# EAGLE library part PARALLELLA_R0 (library parallella)
Parallella full device [rev 0]
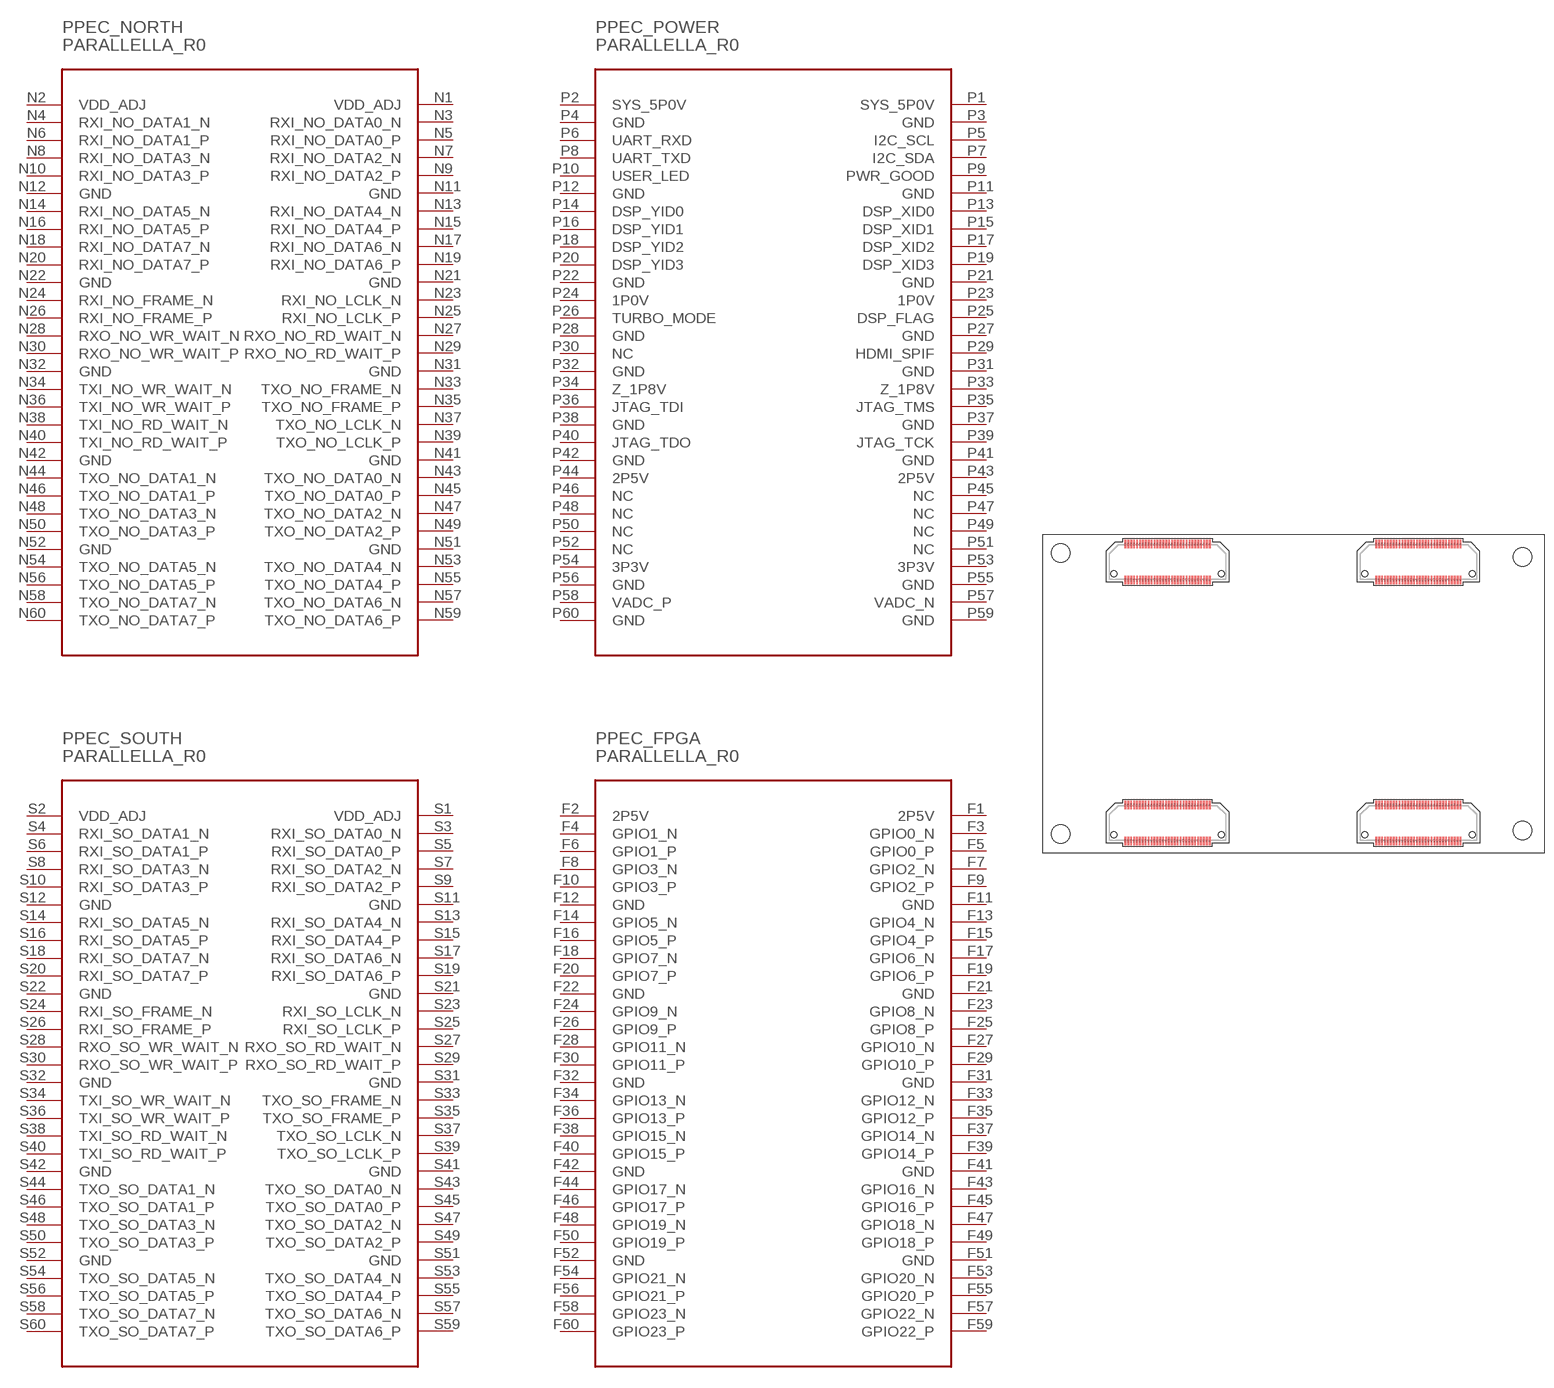
[diagram p1: symbol with the pads of PARALLELLA_R0; footprint PARALLELLA_R0]

Designator prefix P; gates PEC_NORTH=PEC_NORTH_R0 PEC_SOUTH=PEC_SOUTH_R0 PEC_POWER=PEC_POWER_R0 PEC_FPGA=PEC_FPGA_R0

## PARALLELLA_R0  [PARALLELLA_R0]
F1  PEC_FPGA:2P5V  pas
F2  PEC_FPGA:2P5V  pas
F3  PEC_FPGA:GPIO0_N
F4  PEC_FPGA:GPIO1_N
F5  PEC_FPGA:GPIO0_P
F6  PEC_FPGA:GPIO1_P
F7  PEC_FPGA:GPIO2_N
F8  PEC_FPGA:GPIO3_N
F9  PEC_FPGA:GPIO2_P
F10  PEC_FPGA:GPIO3_P
F11  PEC_FPGA:GND  pas
F12  PEC_FPGA:GND  pas
F13  PEC_FPGA:GPIO4_N
F14  PEC_FPGA:GPIO5_N
F15  PEC_FPGA:GPIO4_P
F16  PEC_FPGA:GPIO5_P
F17  PEC_FPGA:GPIO6_N
F18  PEC_FPGA:GPIO7_N
F19  PEC_FPGA:GPIO6_P
F20  PEC_FPGA:GPIO7_P
F21  PEC_FPGA:GND  pas
F22  PEC_FPGA:GND  pas
F23  PEC_FPGA:GPIO8_N
F24  PEC_FPGA:GPIO9_N
F25  PEC_FPGA:GPIO8_P
F26  PEC_FPGA:GPIO9_P
F27  PEC_FPGA:GPIO10_N
F28  PEC_FPGA:GPIO11_N
F29  PEC_FPGA:GPIO10_P
F30  PEC_FPGA:GPIO11_P
F31  PEC_FPGA:GND  pas
F32  PEC_FPGA:GND  pas
F33  PEC_FPGA:GPIO12_N
F34  PEC_FPGA:GPIO13_N
F35  PEC_FPGA:GPIO12_P
F36  PEC_FPGA:GPIO13_P
F37  PEC_FPGA:GPIO14_N
F38  PEC_FPGA:GPIO15_N
F39  PEC_FPGA:GPIO14_P
F40  PEC_FPGA:GPIO15_P
F41  PEC_FPGA:GND  pas
F42  PEC_FPGA:GND  pas
F43  PEC_FPGA:GPIO16_N
F44  PEC_FPGA:GPIO17_N
F45  PEC_FPGA:GPIO16_P
F46  PEC_FPGA:GPIO17_P
F47  PEC_FPGA:GPIO18_N
F48  PEC_FPGA:GPIO19_N
F49  PEC_FPGA:GPIO18_P
F50  PEC_FPGA:GPIO19_P
F51  PEC_FPGA:GND  pas
F52  PEC_FPGA:GND  pas
F53  PEC_FPGA:GPIO20_N
F54  PEC_FPGA:GPIO21_N
F55  PEC_FPGA:GPIO20_P
F56  PEC_FPGA:GPIO21_P
F57  PEC_FPGA:GPIO22_N
F58  PEC_FPGA:GPIO23_N
F59  PEC_FPGA:GPIO22_P
F60  PEC_FPGA:GPIO23_P
N1  PEC_NORTH:VDD_ADJ  pas
N2  PEC_NORTH:VDD_ADJ  pas
N3  PEC_NORTH:RXI_NO_DATA0_N  in
N4  PEC_NORTH:RXI_NO_DATA1_N  in
N5  PEC_NORTH:RXI_NO_DATA0_P  in
N6  PEC_NORTH:RXI_NO_DATA1_P  in
N7  PEC_NORTH:RXI_NO_DATA2_N  in
N8  PEC_NORTH:RXI_NO_DATA3_N  in
N9  PEC_NORTH:RXI_NO_DATA2_P  in
N10  PEC_NORTH:RXI_NO_DATA3_P  in
N11  PEC_NORTH:GND  pas
N12  PEC_NORTH:GND  pas
N13  PEC_NORTH:RXI_NO_DATA4_N  in
N14  PEC_NORTH:RXI_NO_DATA5_N  in
N15  PEC_NORTH:RXI_NO_DATA4_P  in
N16  PEC_NORTH:RXI_NO_DATA5_P  in
N17  PEC_NORTH:RXI_NO_DATA6_N  in
N18  PEC_NORTH:RXI_NO_DATA7_N  in
N19  PEC_NORTH:RXI_NO_DATA6_P  in
N20  PEC_NORTH:RXI_NO_DATA7_P  in
N21  PEC_NORTH:GND  pas
N22  PEC_NORTH:GND  pas
N23  PEC_NORTH:RXI_NO_LCLK_N  in
N24  PEC_NORTH:RXI_NO_FRAME_N  in
N25  PEC_NORTH:RXI_NO_LCLK_P  in
N26  PEC_NORTH:RXI_NO_FRAME_P  in
N27  PEC_NORTH:RXO_NO_RD_WAIT_N  out
N28  PEC_NORTH:RXO_NO_WR_WAIT_N  out
N29  PEC_NORTH:RXO_NO_RD_WAIT_P  out
N30  PEC_NORTH:RXO_NO_WR_WAIT_P  out
N31  PEC_NORTH:GND  pas
N32  PEC_NORTH:GND  pas
N33  PEC_NORTH:TXO_NO_FRAME_N  out
N34  PEC_NORTH:TXI_NO_WR_WAIT_N  in
N35  PEC_NORTH:TXO_NO_FRAME_P  out
N36  PEC_NORTH:TXI_NO_WR_WAIT_P  in
N37  PEC_NORTH:TXO_NO_LCLK_N  out
N38  PEC_NORTH:TXI_NO_RD_WAIT_N  in
N39  PEC_NORTH:TXO_NO_LCLK_P  out
N40  PEC_NORTH:TXI_NO_RD_WAIT_P  in
N41  PEC_NORTH:GND  pas
N42  PEC_NORTH:GND  pas
N43  PEC_NORTH:TXO_NO_DATA0_N  out
N44  PEC_NORTH:TXO_NO_DATA1_N  out
N45  PEC_NORTH:TXO_NO_DATA0_P  out
N46  PEC_NORTH:TXO_NO_DATA1_P  out
N47  PEC_NORTH:TXO_NO_DATA2_N  out
N48  PEC_NORTH:TXO_NO_DATA3_N  out
N49  PEC_NORTH:TXO_NO_DATA2_P  out
N50  PEC_NORTH:TXO_NO_DATA3_P  out
N51  PEC_NORTH:GND  pas
N52  PEC_NORTH:GND  pas
N53  PEC_NORTH:TXO_NO_DATA4_N  out
N54  PEC_NORTH:TXO_NO_DATA5_N  out
N55  PEC_NORTH:TXO_NO_DATA4_P  out
N56  PEC_NORTH:TXO_NO_DATA5_P  out
N57  PEC_NORTH:TXO_NO_DATA6_N  out
N58  PEC_NORTH:TXO_NO_DATA7_N  out
N59  PEC_NORTH:TXO_NO_DATA6_P  out
N60  PEC_NORTH:TXO_NO_DATA7_P  out
P1  PEC_POWER:SYS_5P0V  pas
P2  PEC_POWER:SYS_5P0V  pas
P3  PEC_POWER:GND  pas
P4  PEC_POWER:GND  pas
P5  PEC_POWER:I2C_SCL
P6  PEC_POWER:UART_RXD  in
P7  PEC_POWER:I2C_SDA
P8  PEC_POWER:UART_TXD  out
P9  PEC_POWER:PWR_GOOD  out
P10  PEC_POWER:USER_LED  out
P11  PEC_POWER:GND  pas
P12  PEC_POWER:GND  pas
P13  PEC_POWER:DSP_XID0  in
P14  PEC_POWER:DSP_YID0  in
P15  PEC_POWER:DSP_XID1  in
P16  PEC_POWER:DSP_YID1  in
P17  PEC_POWER:DSP_XID2  in
P18  PEC_POWER:DSP_YID2  in
P19  PEC_POWER:DSP_XID3  in
P20  PEC_POWER:DSP_YID3  in
P21  PEC_POWER:GND  pas
P22  PEC_POWER:GND  pas
P23  PEC_POWER:1P0V  pas
P24  PEC_POWER:1P0V  pas
P25  PEC_POWER:DSP_FLAG  out
P26  PEC_POWER:TURBO_MODE  out
P27  PEC_POWER:GND  pas
P28  PEC_POWER:GND  pas
P29  PEC_POWER:HDMI_SPIF  out
P30  PEC_POWER:NC  nc
P31  PEC_POWER:GND  pas
P32  PEC_POWER:GND  pas
P33  PEC_POWER:Z_1P8V  pas
P34  PEC_POWER:Z_1P8V  pas
P35  PEC_POWER:JTAG_TMS  in
P36  PEC_POWER:JTAG_TDI  in
P37  PEC_POWER:GND  pas
P38  PEC_POWER:GND  pas
P39  PEC_POWER:JTAG_TCK  in
P40  PEC_POWER:JTAG_TDO  out
P41  PEC_POWER:GND  pas
P42  PEC_POWER:GND  pas
P43  PEC_POWER:2P5V  pas
P44  PEC_POWER:2P5V  pas
P45  PEC_POWER:NC  nc
P46  PEC_POWER:NC  nc
P47  PEC_POWER:NC  nc
P48  PEC_POWER:NC  nc
P49  PEC_POWER:NC  nc
P50  PEC_POWER:NC  nc
P51  PEC_POWER:NC  nc
P52  PEC_POWER:NC  nc
P53  PEC_POWER:3P3V  pas
P54  PEC_POWER:3P3V  pas
P55  PEC_POWER:GND  pas
P56  PEC_POWER:GND  pas
P57  PEC_POWER:VADC_N  in
P58  PEC_POWER:VADC_P  in
P59  PEC_POWER:GND  pas
P60  PEC_POWER:GND  pas
S1  PEC_SOUTH:VDD_ADJ  pas
S2  PEC_SOUTH:VDD_ADJ  pas
S3  PEC_SOUTH:RXI_SO_DATA0_N  in
S4  PEC_SOUTH:RXI_SO_DATA1_N  in
S5  PEC_SOUTH:RXI_SO_DATA0_P  in
S6  PEC_SOUTH:RXI_SO_DATA1_P  in
S7  PEC_SOUTH:RXI_SO_DATA2_N  in
S8  PEC_SOUTH:RXI_SO_DATA3_N  in
S9  PEC_SOUTH:RXI_SO_DATA2_P  in
S10  PEC_SOUTH:RXI_SO_DATA3_P  in
S11  PEC_SOUTH:GND  pas
S12  PEC_SOUTH:GND  pas
S13  PEC_SOUTH:RXI_SO_DATA4_N  in
S14  PEC_SOUTH:RXI_SO_DATA5_N  in
S15  PEC_SOUTH:RXI_SO_DATA4_P  in
S16  PEC_SOUTH:RXI_SO_DATA5_P  in
S17  PEC_SOUTH:RXI_SO_DATA6_N  in
S18  PEC_SOUTH:RXI_SO_DATA7_N  in
S19  PEC_SOUTH:RXI_SO_DATA6_P  in
S20  PEC_SOUTH:RXI_SO_DATA7_P  in
S21  PEC_SOUTH:GND  pas
S22  PEC_SOUTH:GND  pas
S23  PEC_SOUTH:RXI_SO_LCLK_N  in
S24  PEC_SOUTH:RXI_SO_FRAME_N  in
S25  PEC_SOUTH:RXI_SO_LCLK_P  in
S26  PEC_SOUTH:RXI_SO_FRAME_P  in
S27  PEC_SOUTH:RXO_SO_RD_WAIT_N  out
S28  PEC_SOUTH:RXO_SO_WR_WAIT_N  out
S29  PEC_SOUTH:RXO_SO_RD_WAIT_P  out
S30  PEC_SOUTH:RXO_SO_WR_WAIT_P  out
S31  PEC_SOUTH:GND  pas
S32  PEC_SOUTH:GND  pas
S33  PEC_SOUTH:TXO_SO_FRAME_N  out
S34  PEC_SOUTH:TXI_SO_WR_WAIT_N  in
S35  PEC_SOUTH:TXO_SO_FRAME_P  out
S36  PEC_SOUTH:TXI_SO_WR_WAIT_P  in
S37  PEC_SOUTH:TXO_SO_LCLK_N  out
S38  PEC_SOUTH:TXI_SO_RD_WAIT_N  in
S39  PEC_SOUTH:TXO_SO_LCLK_P  out
S40  PEC_SOUTH:TXI_SO_RD_WAIT_P  in
S41  PEC_SOUTH:GND  pas
S42  PEC_SOUTH:GND  pas
S43  PEC_SOUTH:TXO_SO_DATA0_N  out
S44  PEC_SOUTH:TXO_SO_DATA1_N  out
S45  PEC_SOUTH:TXO_SO_DATA0_P  out
S46  PEC_SOUTH:TXO_SO_DATA1_P  out
S47  PEC_SOUTH:TXO_SO_DATA2_N  out
S48  PEC_SOUTH:TXO_SO_DATA3_N  out
S49  PEC_SOUTH:TXO_SO_DATA2_P  out
S50  PEC_SOUTH:TXO_SO_DATA3_P  out
S51  PEC_SOUTH:GND  pas
S52  PEC_SOUTH:GND  pas
S53  PEC_SOUTH:TXO_SO_DATA4_N  out
S54  PEC_SOUTH:TXO_SO_DATA5_N  out
S55  PEC_SOUTH:TXO_SO_DATA4_P  out
S56  PEC_SOUTH:TXO_SO_DATA5_P  out
S57  PEC_SOUTH:TXO_SO_DATA6_N  out
S58  PEC_SOUTH:TXO_SO_DATA7_N  out
S59  PEC_SOUTH:TXO_SO_DATA6_P  out
S60  PEC_SOUTH:TXO_SO_DATA7_P  out

## Footprint PARALLELLA_R0 (pad centres in mm)
Parallella full footprint [rev 0]
smd 0.305 x 1.448: F1 25.589,-1.181; F2 25.589,4.991; F3 25.089,-1.181; F4 25.089,4.991; F5 24.589,-1.181; F6 24.589,4.991; F7 24.089,-1.181; F8 24.089,4.991; F9 23.589,-1.181; F10 23.589,4.991; F11 23.089,-1.181; F12 23.089,4.991; F13 22.589,-1.181; F14 22.589,4.991; F15 22.089,-1.181; F16 22.089,4.991; F17 21.589,-1.181; F18 21.589,4.991; F19 21.089,-1.181; F20 21.089,4.991; F21 20.589,-1.181; F22 20.589,4.991; F23 20.089,-1.181; F24 20.089,4.991; F25 19.589,-1.181; F26 19.589,4.991; F27 19.089,-1.181; F28 19.089,4.991; F29 18.589,-1.181; F30 18.589,4.991; F31 18.089,-1.181; F32 18.089,4.991; F33 17.589,-1.181; F34 17.589,4.991; F35 17.089,-1.181; F36 17.089,4.991; F37 16.589,-1.181; F38 16.589,4.991; F39 16.089,-1.181; F40 16.089,4.991; F41 15.589,-1.181; F42 15.589,4.991; F43 15.089,-1.181; F44 15.089,4.991; F45 14.589,-1.181; F46 14.589,4.991; F47 14.089,-1.181; F48 14.089,4.991; F49 13.589,-1.181; F50 13.589,4.991; F51 13.089,-1.181; F52 13.089,4.991; F53 12.589,-1.181; F54 12.589,4.991; F55 12.089,-1.181; F56 12.089,4.991; F57 11.589,-1.181; F58 11.589,4.991; F59 11.089,-1.181; F60 11.089,4.991; N1 68.719,-1.181; N2 68.719,4.991; N3 68.219,-1.181; N4 68.219,4.991; N5 67.719,-1.181; N6 67.719,4.991; N7 67.219,-1.181; N8 67.219,4.991; N9 66.719,-1.181; N10 66.719,4.991; N11 66.219,-1.181; N12 66.219,4.991; N13 65.719,-1.181; N14 65.719,4.991; N15 65.219,-1.181; N16 65.219,4.991; N17 64.719,-1.181; N18 64.719,4.991; N19 64.219,-1.181; N20 64.219,4.991; N21 63.718,-1.181; N22 63.718,4.991; N23 63.218,-1.181; N24 63.218,4.991; N25 62.718,-1.181; N26 62.718,4.991; N27 62.218,-1.181; N28 62.218,4.991; N29 61.718,-1.181; N30 61.718,4.991; N31 61.218,-1.181; N32 61.218,4.991; N33 60.718,-1.181; N34 60.718,4.991; N35 60.218,-1.181; N36 60.218,4.991; N37 59.718,-1.181; N38 59.718,4.991; N39 59.218,-1.181; N40 59.218,4.991; N41 58.718,-1.181; N42 58.718,4.991; N43 58.218,-1.181; N44 58.218,4.991; N45 57.718,-1.181; N46 57.718,4.991; N47 57.218,-1.181; N48 57.218,4.991; N49 56.718,-1.181; N50 56.718,4.991; N51 56.218,-1.181; N52 56.218,4.991; N53 55.718,-1.181; N54 55.718,4.991; N55 55.218,-1.181; N56 55.218,4.991; N57 54.718,-1.181; N58 54.718,4.991; N59 54.218,-1.181; N60 54.218,4.991; P1 25.614,43.65; P2 25.614,49.822; P3 25.114,43.65; P4 25.114,49.822; P5 24.614,43.65; P6 24.614,49.822; P7 24.114,43.65; P8 24.114,49.822; P9 23.614,43.65; P10 23.614,49.822; P11 23.114,43.65; P12 23.114,49.822; P13 22.614,43.65; P14 22.614,49.822; P15 22.114,43.65; P16 22.114,49.822; P17 21.614,43.65; P18 21.614,49.822; P19 21.114,43.65; P20 21.114,49.822; P21 20.614,43.65; P22 20.614,49.822; P23 20.114,43.65; P24 20.114,49.822; P25 19.614,43.65; P26 19.614,49.822; P27 19.114,43.65; P28 19.114,49.822; P29 18.614,43.65; P30 18.614,49.822; P31 18.114,43.65; P32 18.114,49.822; P33 17.614,43.65; P34 17.614,49.822; P35 17.114,43.65; P36 17.114,49.822; P37 16.614,43.65; P38 16.614,49.822; P39 16.114,43.65; P40 16.114,49.822; P41 15.614,43.65; P42 15.614,49.822; P43 15.114,43.65; P44 15.114,49.822; P45 14.614,43.65; P46 14.614,49.822; P47 14.114,43.65; P48 14.114,49.822; P49 13.614,43.65; P50 13.614,49.822; P51 13.114,43.65; P52 13.114,49.822; P53 12.614,43.65; P54 12.614,49.822; P55 12.114,43.65; P56 12.114,49.822; P57 11.614,43.65; P58 11.614,49.822; P59 11.114,43.65; P60 11.114,49.822; S1 68.718,43.65; S2 68.718,49.822; S3 68.218,43.65; S4 68.218,49.822; S5 67.718,43.65; S6 67.718,49.822; S7 67.218,43.65; S8 67.218,49.822; S9 66.718,43.65; S10 66.718,49.822; S11 66.218,43.65; S12 66.218,49.822; S13 65.718,43.65; S14 65.718,49.822; S15 65.218,43.65; S16 65.218,49.822; S17 64.718,43.65; S18 64.718,49.822; S19 64.218,43.65; S20 64.218,49.822; S21 63.718,43.65; S22 63.718,49.822; S23 63.218,43.65; S24 63.218,49.822; S25 62.718,43.65; S26 62.718,49.822; S27 62.218,43.65; S28 62.218,49.822; S29 61.718,43.65; S30 61.718,49.822; S31 61.218,43.65; S32 61.218,49.822; S33 60.718,43.65; S34 60.718,49.822; S35 60.218,43.65; S36 60.218,49.822; S37 59.718,43.65; S38 59.718,49.822; S39 59.218,43.65; S40 59.218,49.822; S41 58.718,43.65; S42 58.718,49.822; S43 58.218,43.65; S44 58.218,49.822; S45 57.718,43.65; S46 57.718,49.822; S47 57.218,43.65; S48 57.218,49.822; S49 56.718,43.65; S50 56.718,49.822; S51 56.218,43.65; S52 56.218,49.822; S53 55.718,43.65; S54 55.718,49.822; S55 55.218,43.65; S56 55.218,49.822; S57 54.718,43.65; S58 54.718,49.822; S59 54.218,43.65; S60 54.218,49.822
hole 3.175 at 0,0
hole 3.175 at 0,48.26
hole 3.175 at 79.375,0.635
hole 3.175 at 79.375,47.625
hole 1.016 at 27.585,-0.127
hole 1.016 at 9.093,-0.127
hole 1.016 at 27.61,44.704
hole 1.016 at 9.118,44.704
hole 1.016 at 70.715,-0.127
hole 1.016 at 52.222,-0.127
hole 1.016 at 70.714,44.704
hole 1.016 at 52.222,44.704